# EAGLE library part SISA96DN-T1-GE3 (library SISA96DN-T1-GE3)
VISHAY - SISA96DN-T1-GE3 - MOSFET, N-CH, 30V, 16A, POWERPAK 1212 Source: Datasheet <https://componentsearchengine.com/Datasheets/2/SISS10ADN-T1-GE3.pdf>
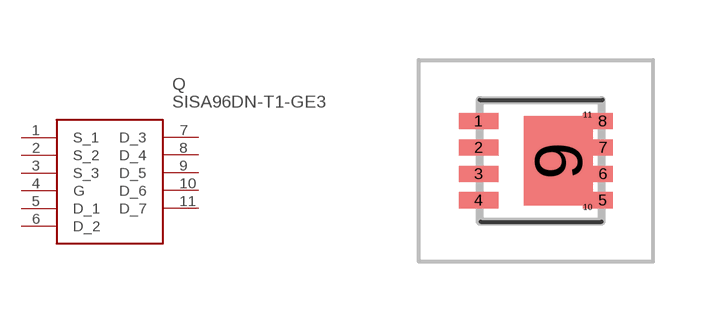
[diagram p0: symbol with the pads of SIS862DNT1GE3; footprint SIS862DNT1GE3]

Designator prefix Q

## SISA96DN-T1-GE3 (Arrow_Part_Number: SISA96DN-T1-GE3; Arrow_Price-Stock: https://www.arrow.com/en/products/sisa96dn-t1-ge3/vishay?region=nac; Description: VISHAY - SISA96DN-T1-GE3 - MOSFET, N-CH, 30V, 16A, POWERPAK 1212; Height: 1.12mm; Manufacturer_Name: Vishay; Manufacturer_Part_Number: SISA96DN-T1-GE3; Mouser_Part_Number: 78-SISA96DN-T1-GE3; Mouser_Price-Stock: https://www.mouser.co.uk/ProductDetail/Vishay-Siliconix/SISA96DN-T1-GE3?qs=Mv7BduZupUj8OwN89gx2tA%3D%3D)  [SIS862DNT1GE3]
1  S_1
2  S_2
3  S_3
4  G
5  D_1
6  D_2
7  D_3
8  D_4
9  D_5
10  D_6
11  D_7

## Footprint SIS862DNT1GE3 (pad centres in mm)
PowerPAK® 1212-8 Single_2
smd 0.99 x 0.405: 1 -1.555,0.992; 2 -1.555,0.332; 3 -1.555,-0.328; 4 -1.555,-0.988
smd 0.51 x 0.405: 5 1.555,-0.988; 6 1.555,-0.328; 7 1.555,0.332; 8 1.555,0.992
smd 1.725 x 2.235: 9 0.438,0.002
smd 0.25 x 0.077: 10 1.175,-1.156; 11 1.175,1.156